# Altium integrated library Resonators.IntLib: 2 symbols
Pins are listed as number, name and electrical type; pins without a type are passive.

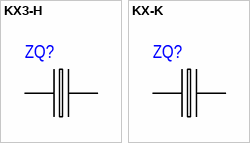
[diagram p0: symbols KX3-H to KX-K]

## KX3-H
designator ZQ?
Manufacturer: Geyer; Note: KX-3H
footprint KX-3H
pins: 1, 2

## KX-K
designator ZQ?
Manufacturer: Geyer; Note: KX-K
footprint KX-K
pins: 1, 2